# Altium footprint library TLV320AIC3204.PcbLib: 2 footprints
Each footprint in its own frame and in the unit in brackets; x right, y up, seen from the top. Pads: shape width x height; smd on the part's side, far side on the other; paste and mask are expansions set on the pad; w line width, h text height; cw(c..) or ccw(c..) is an arc to the next point about the centre after c.
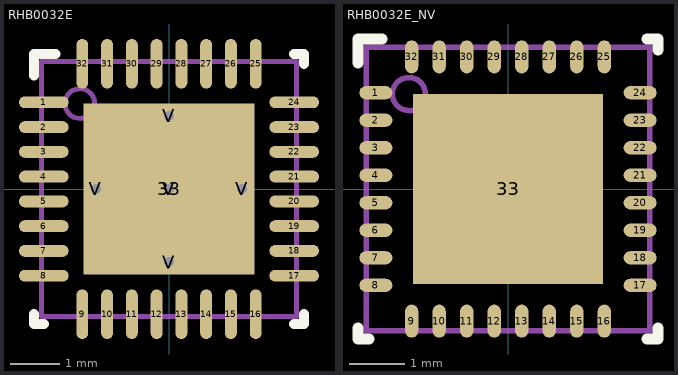
[diagram p0: the footprints below, top view; thin cyan lines are the x and y axes]

## RHB0032E [mm]
pads (38):
  oval 1x0.24 smd paste+0 mask+0.051: 1(-2.527,1.75) 2(-2.527,1.25) 3(-2.527,0.75) 4(-2.527,0.25) 5(-2.527,-0.25) 6(-2.527,-0.75) 7(-2.527,-1.25) 8(-2.527,-1.75) 17(2.527,-1.75) 18(2.527,-1.25) 19(2.527,-0.75) 20(2.527,-0.25) 21(2.527,0.25) 22(2.527,0.75) 23(2.527,1.25) 24(2.527,1.75)
  oval 0.24x1 smd paste+0 mask+0.051: 9(-1.75,-2.527) 10(-1.25,-2.527) 11(-0.75,-2.527) 12(-0.25,-2.527) 13(0.25,-2.527) 14(0.75,-2.527) 15(1.25,-2.527) 16(1.75,-2.527) 25(1.75,2.527) 26(1.25,2.527) 27(0.75,2.527) 28(0.25,2.527) 29(-0.25,2.527) 30(-0.75,2.527) 31(-1.25,2.527) 32(-1.75,2.527)
  rect 3.45x3.45 smd paste-1.712 mask+0.051: 33(0,0)
  round 0.5 / inner round 1.524 / far side round 0.5 hole 0.203 mask+0.051: V(-1.475,0) V(0,-1.475) V(0,0) V(0,1.475) V(1.475,0)
Top Overlay:
  lines w0.2: -2.725,-2.525 -2.725,-2.725 -2.525,-2.725 ; -2.725,2.29 -2.725,2.725 -2.29,2.725 ; 2.525,-2.725 2.725,-2.725 2.725,-2.525 ; 2.525,2.725 2.725,2.725 2.725,2.525
Top Paste:
  region: 0.1,-0.1 0.1,-1.586 1.586,-1.586 1.586,-0.1
  region: -0.1,-1.586 -0.1,-0.1 -1.586,-0.1 -1.586,-1.586
  region: -0.1,0.1 -0.1,1.586 -1.586,1.586 -1.586,0.1
  region: 0.1,1.586 0.1,0.1 1.586,0.1 1.586,1.586
Mechanical 13:
  circle w0.1: c-1.8,1.725 r0.3
  lines w0.1: -2.575,-2.575 -2.575,2.575 2.575,2.575 2.575,-2.575 -2.575,-2.575
3D body "TLV320AIC3204.stp": height 1.05, standoff 0.05, extent -2.5,-2.5 2.5,2.5

## RHB0032E_NV [mm]
pads (33):
  oval 0.6x0.24 smd paste+0 mask+0.051: 1(-2.4,1.75) 2(-2.4,1.25) 3(-2.4,0.75) 4(-2.4,0.25) 5(-2.4,-0.25) 6(-2.4,-0.75) 7(-2.4,-1.25) 8(-2.4,-1.75) 17(2.4,-1.75) 18(2.4,-1.25) 19(2.4,-0.75) 20(2.4,-0.25) 21(2.4,0.25) 22(2.4,0.75) 23(2.4,1.25) 24(2.4,1.75)
  oval 0.24x0.6 smd paste+0 mask+0.051: 9(-1.75,-2.4) 10(-1.25,-2.4) 11(-0.75,-2.4) 12(-0.25,-2.4) 13(0.25,-2.4) 14(0.75,-2.4) 15(1.25,-2.4) 16(1.75,-2.4) 25(1.75,2.4) 26(1.25,2.4) 27(0.75,2.4) 28(0.25,2.4) 29(-0.25,2.4) 30(-0.75,2.4) 31(-1.25,2.4) 32(-1.75,2.4)
  rect 3.45x3.45 smd paste-1.712 mask+0.051: 33(0,0)
Top Overlay:
  lines w0.2: -2.725,-2.525 -2.725,-2.725 -2.525,-2.725 ; -2.725,2.29 -2.725,2.725 -2.29,2.725 ; 2.525,-2.725 2.725,-2.725 2.725,-2.525 ; 2.525,2.725 2.725,2.725 2.725,2.525
Top Paste:
  region: 0.1,-0.1 0.1,-1.586 1.586,-1.586 1.586,-0.1
  region: -0.1,-1.586 -0.1,-0.1 -1.586,-0.1 -1.586,-1.586
  region: -0.1,0.1 -0.1,1.586 -1.586,1.586 -1.586,0.1
  region: 0.1,1.586 0.1,0.1 1.586,0.1 1.586,1.586
Mechanical 13:
  circle w0.1: c-1.8,1.725 r0.3
  lines w0.1: -2.575,-2.575 -2.575,2.575 2.575,2.575 2.575,-2.575 -2.575,-2.575
3D body "TLV320AIC3204.stp": height 1.05, standoff 0.05, extent -2.5,-2.5 2.5,2.5
3D body: height 0.25, standoff 0, extent 0,0 0.254,0.254